# Altium footprint library Mechanical Pad Lib.PcbLib: 2 footprints
Each footprint in its own frame and in the unit in brackets; x right, y up, seen from the top. Pads: shape width x height; smd on the part's side, far side on the other; paste and mask are expansions set on the pad; w line width, h text height; cw(c..) or ccw(c..) is an arc to the next point about the centre after c.
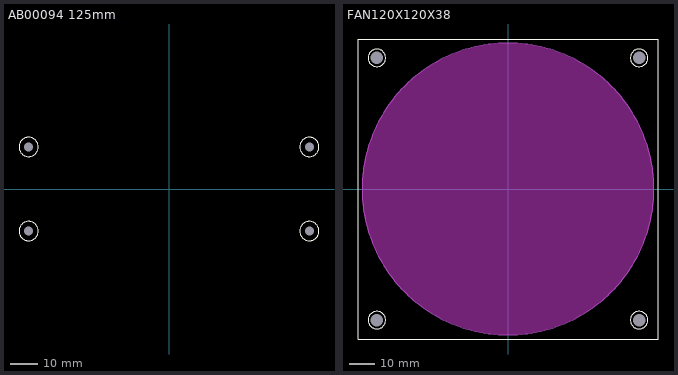
[diagram p0: the footprints below, top view; thin cyan lines are the x and y axes]

## AB00094 125mm [mm] "HeatSink AB00094 (Ligra-spb.ru)"
pads (4):
  round 0 hole 3.2 unplated: 0(-50.8,-15.24) 0(-50.8,15.24) 0(50.8,-15.24) 0(50.8,15.24)
Top Overlay:
  circle w0.254: c50.8,-15.24 r3.5
  circle w0.254: c50.8,15.24 r3.5
  circle w0.254: c-50.8,-15.24 r3.5
  circle w0.254: c-50.8,15.24 r3.5
3D body "AB0094 125mm 2022.STEP": height 33, standoff 0, extent -62.5,-31.4 62.5,31.4

## FAN120X120X38 [mil] "FAN 120X120X38mm"
pads (4):
  round 0 hole 196.85 unplated: 0(-2067,-2067) 0(-2067,2067) 0(2067,-2067) 0(2067,2067)
Top Overlay:
  circle w10: c2067,-2067 r137.8
  circle w10: c2067,2067 r137.8
  circle w10: c-2067,-2067 r137.8
  circle w10: c-2067,2067 r137.8
  lines w10: -2365,-2365 2365,-2365 2365,2365 -2365,2365 -2365,-2365
Keep-Out Layer:
  drawing of 1 lines, arcs and shapes, not listed
Board:
  circle w10: c0,0 r2300
3D body "FAN120X120X38.STEP": height 1496.06, standoff 0, extent -2362.2,-2362.2 2362.21,2362.21